# Altium footprint library Diodito.PcbLib: 1 footprints
Each footprint in its own frame and in the unit in brackets; x right, y up, seen from the top. Pads: shape width x height; smd on the part's side, far side on the other; paste and mask are expansions set on the pad; w line width, h text height; cw(c..) or ccw(c..) is an arc to the next point about the centre after c.
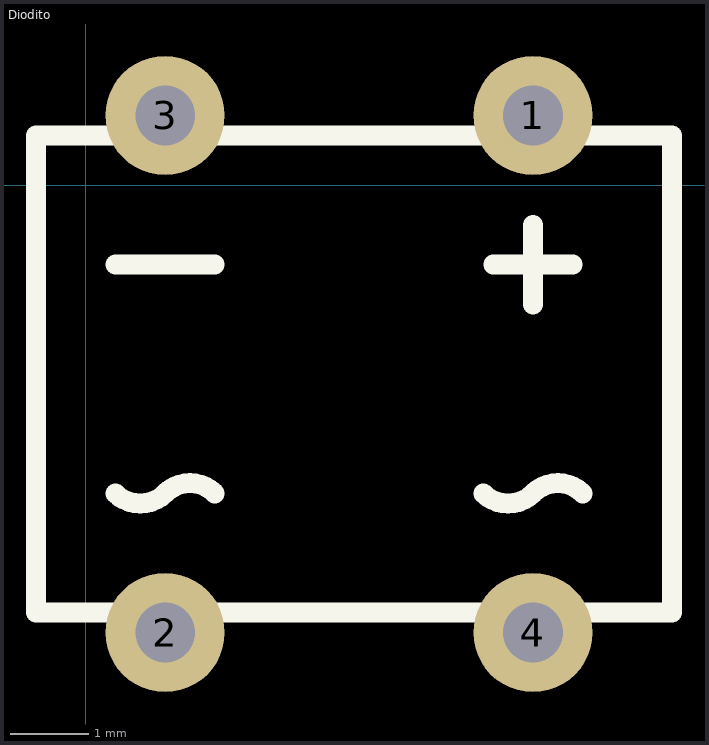
[diagram p0: the footprint, top view; thin cyan lines are the x and y axes]

## Diodito [mil]
pads (4):
  round 60 hole 30: 1(225,35) 2(40,-225) 3(40,35) 4(225,-225)
Top Overlay:
  lines w10: 15,-155 ccw(c27.5,-142.5) 40,-155 cw(c52.5,-167.5) 65,-155 ; 15,-40 65,-40 ; 200,-155 ccw(c212.5,-142.5) 225,-155 cw(c237.5,-167.5) 250,-155 ; 205,-40 245,-40 ; 225,-60 225,-20 ; -25,-215 -25,25 295,25 295,-215 -25,-215